# Altium schematic symbol library Super_Hornet.SchLib: 120 symbols (part 5 of 5)
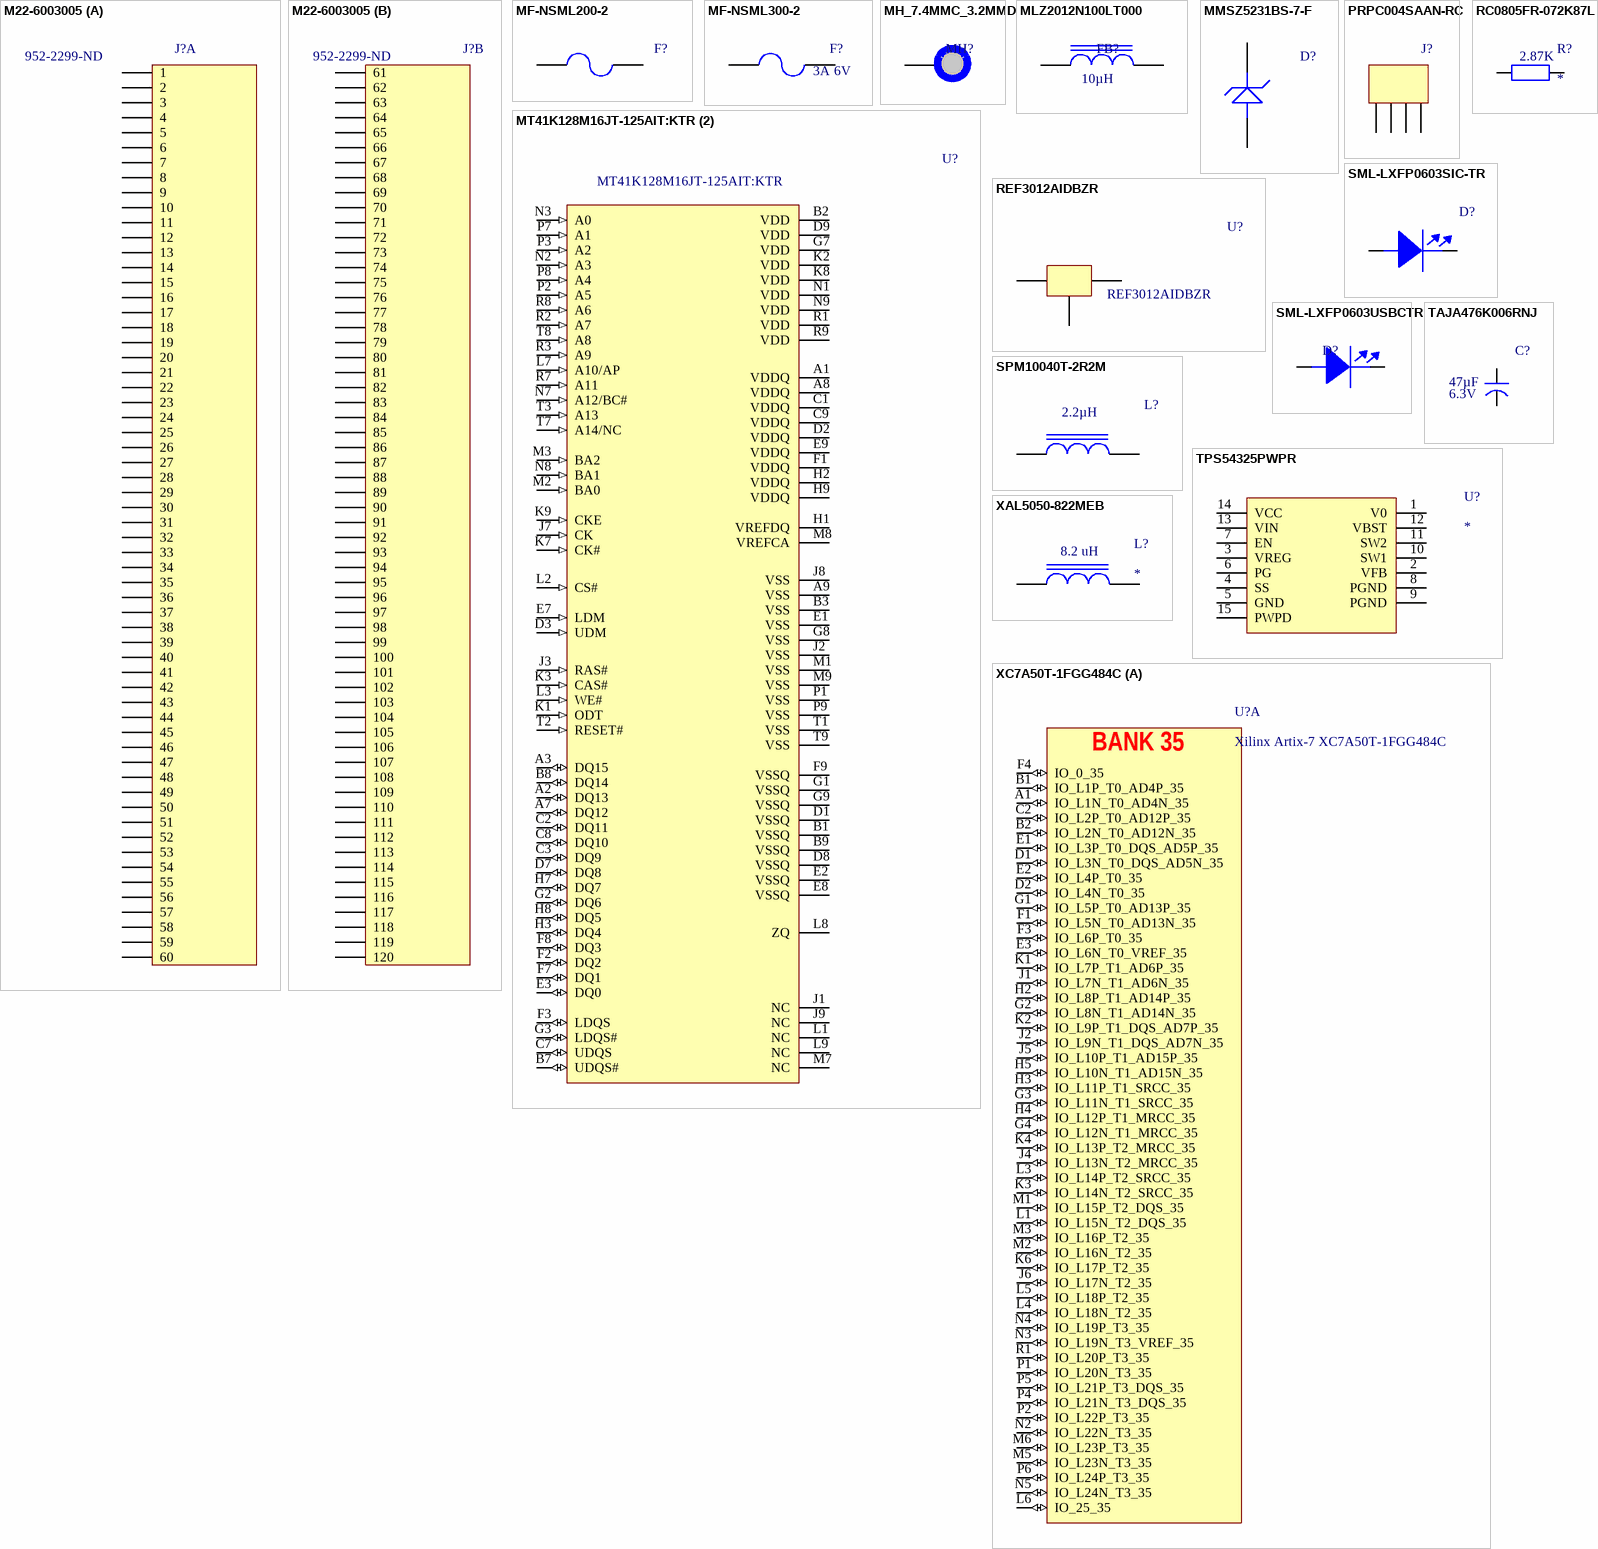
[diagram p10: symbols M22-6003005 to XC7A50T-1FGG484C]

## M22-6003005
designator J?  Supplier Part Number 1: 952-2299-ND  (hidden comment: M22-6003005)
CONN STKTHRU PC/104+ 120POS PCB; Manufacturer: Harwin; Connector Type: Stackthrough, Unkeyed (PC/104); Connector Style: PC/104 Plus; Number of Positions: 120; Number of Positions Loaded: All; Pitch: 0.079" (2.00mm); Current Rating: 1A; Material Flammability Rating: UL94 V-0; Supplier 1: Digi-Key; Manufacturer Part Number: M22-6003005; Stock 1: 268; Pricing 1: 1=14.88, 5=14.476, 10=14.074, 25=13.2692, 50=12.8672, 100=12.063, 250=11.2588, 500=10.8567, 1000=10.4546 (USD); Category: Connectors, Interconnects; Family: Backplane Connectors - Specialized; Series: M22; Packaging: Tube; Connector Usage: -; Number of Rows: 4; Number of Columns: -; Mounting Type: Through Hole; Termination: Solder; Contact Layout, Typical: -; Features: -; Contact Finish: Gold; Contact Finish Thickness: Flash; Color: Black; Operating Temperature: -55°C ~ 105°C; Voltage Rating: -; ComponentLink1URL: http://www.mouser.com/ds/2/181/M22-600-1133549.pdf?src-supplier=Mouser; ComponentLink1Description: http://www.mouser.com/ds/2/181/M22-600-1133549.pdf?src-supplier=Mouser
footprint 120POS_CONN
part A pins: 1, 2, 3, 4, 5, 6, 7, 8, 9, 10, 11, 12, 13, 14, 15, 16, 17, 18, 19, 20, 21, 22, 23, 24, 25, 26, 27, 28, 29, 30, 31, 32, 33, 34, 35, 36, 37, 38, 39, 40, 41, 42, 43, 44, 45, 46, 47, 48, 49, 50, 51, 52, 53, 54, 55, 56, 57, 58, 59, 60
part B pins: 61, 62, 63, 64, 65, 66, 67, 68, 69, 70, 71, 72, 73, 74, 75, 76, 77, 78, 79, 80, 81, 82, 83, 84, 85, 86, 87, 88, 89, 90, 91, 92, 93, 94, 95, 96, 97, 98, 99, 100, 101, 102, 103, 104, 105, 106, 107, 108, 109, 110, 111, 112, 113, 114, 115, 116, 117, 118, 119, 120

## MF-NSML200-2
designator F?  (value not drawn)
PTC FUSE 2A HOLD 4ATRIP 6V 50A 0.8W 1s; Manufacturer: Bourns; Manufacturer Part Number: MF-NSML200-2; Categories: Circuit Protection; Type: Polymeric; Current - Trip (It): 4A; Resistance - Initial (Ri) (Min): 5 mOhms; Resistance - Post Trip (R1) (Max): 25 mOhms; Approvals: cURus, TUV; Supplier 1: Digi-Key; Stock 1: 3983; Pricing 1: 1=0.95, 5=0.92, 10=0.861, 50=0.7128, 100=0.594, 250=0.5792, 500=0.4901, 1000=0.4307 (USD); Series: Multifuse®, MF-NSML; Packaging: Cut Tape (CT); Part Status: Active; Voltage - Max: 6V; Current - Max: 50A; Current - Hold (Ih) (Max): 2A; Time to Trip: 1s; Operating Temperature: -40°C ~ 85°C; Ratings: -; Mounting Type: Surface Mount; Package / Case: 1206 (3216 Metric), Concave; Size / Dimension: 0.128 L x 0.063 W (3.25mm x 1.60mm); Height - Seated (Max): -; Thickness (Max): 0.024 (0.60mm); Lead Spacing: -; ComponentLink1URL: https://www.bourns.com/docs/Product-Datasheets/mfnsml.pdf?src-supplier=Digi-Key; ComponentLink1Description: https://www.bourns.com/docs/Product-Datasheets/mfnsml.pdf?src-supplier=Digi-Key; Supplier Part Number 1: MF-NSML200-2CT-ND
footprint C1206 - PTC
pins: 1, 2

## MF-NSML300-2
designator F?  Voltage - Max: 6V  Current - Hold (Ih) (Max): 3A  (hidden comment: *)
PTC FUSE 3A HOLD 6V 1206; Manufacturer: Bourns; Manufacturer Part Number: MF-NSML300-2; Categories: Circuit Protection; Type: Polymeric; Current - Max: 50A; Current - Trip (It): 6A; Resistance - Initial (Ri) (Min): 2.5 mOhms; Resistance - Post Trip (R1) (Max): 20 mOhms; Approvals: cURus, TUV; Time to Trip: 4s; Supplier 1: Digi-Key; Stock 1: 1383; Pricing 1: 1=0.95, 5=0.92, 10=0.861, 50=0.7128, 100=0.594, 250=0.5792, 500=0.4901, 1000=0.4307 (USD); Series: Multifuse®, MF-NSML; Packaging: Cut Tape (CT); Part Status: Active; Operating Temperature: -40°C ~ 85°C; Ratings: -; Mounting Type: Surface Mount; Package / Case: 1206 (3216 Metric), Concave; Size / Dimension: 0.128 L x 0.063 W (3.25mm x 1.60mm); Height - Seated (Max): -; Thickness (Max): 0.024 (0.60mm); Lead Spacing: -; ComponentLink1URL: https://www.bourns.com/docs/Product-Datasheets/mfnsml.pdf?src-supplier=Digi-Key; ComponentLink1Description: https://www.bourns.com/docs/Product-Datasheets/mfnsml.pdf?src-supplier=Digi-Key; ComponentLink2URL: http://www.bourns.com/docs/Product-Datasheets/mfnsml.pdf?src-supplier=Digi-Key; ComponentLink2Description: http://www.bourns.com/docs/Product-Datasheets/mfnsml.pdf?src-supplier=Digi-Key; ComponentLink3URL: http://www.farnell.com/datasheets/2339790.pdf?src-supplier=Farnell; ComponentLink3Description: http://www.farnell.com/datasheets/2339790.pdf?src-supplier=Farnell; Supplier Part Number 1: MF-NSML300-2CT-ND
footprint C1206 - PTC
pins: 1, 2

## MH_7.4MMC_3.2MMD
designator MH?  (value not drawn)  (no BOM)
MOUNTING HOLE 7.4MM DIAMETER, 3.2MM DRILL
footprint PAD_WITH_HOLE_4MMx1.5MM
pins: 1

## MLZ2012N100LT000
designator FB?  Inductance: 10µH  (hidden comment: *)
IND 10UH 500MA 300 MOHM; Manufacturer: TDK; Manufacturer Part Number: MLZ2012N100LT000; Product Training Modules: SMD Inductors; EDA / CAD Models: Download from Accelerated Designs; Type: Multilayer; Material - Core: Ferrite; Tolerance: ±20%; Current - Saturation: 110mA; Shielding: Shielded; DC Resistance (DCR): 390 mOhm Max; Frequency - Self Resonant: 50MHz; Frequency - Test: 2MHz; Online Catalog: MLZ Series; Other Names: 445-6762-6; Supplier 1: Digi-Key; Stock 1: 55210; Pricing 1: 1=0.14, 10=0.129, 100=0.0863, 500=0.0719, 1000=0.0604 (USD); Standard Package: 1; Category: Inductors, Coils, Chokes; Family: Fixed Inductors; Series: MLZ; Packaging: Digi-Reel®; Current Rating: 500mA; Q @ Freq: -; Ratings: -; Operating Temperature: -55°C ~ 125°C; Mounting Type: Surface Mount; Package / Case: 0805 (2012 Metric); Size / Dimension: 0.079" L x 0.049" W (2.00mm x 1.25mm); Height - Seated (Max): 0.057" (1.45mm); ComponentLink1URL: https://product.tdk.com/info/en/catalog/datasheets/inductor_commercial_decoupling_mlz2012_en.pdf?src-supplier=Digi-Key; ComponentLink1Description: https://product.tdk.com/info/en/catalog/datasheets/inductor_commercial_decoupling_mlz2012_en.pdf?src-supplier=Digi-Key; Supplier Part Number 1: 445-6762-1-ND
footprint R0805
pins: 1, 2

## MMSZ5231BS-7-F
designator D?  (value not drawn)
DIODE ZENER 5.1V 200MW SOD323; Manufacturer: Diodes; Manufacturer Part Number: MMSZ5231BS-7-F; Voltage Tolerance: 5 %; Zener Current: 5 uA; Zz - Zener Impedance: 17 Ohms; Configuration: Single; Brand: Diodes Incorporated; Vf - Forward Voltage: 0.9 V at 10 mA; Unit Weight: 0.000173 oz; Supplier 1: Digi-Key; Stock 1: 36123; Pricing 1: 1=0.26, 10=0.182, 100=0.097, 500=0.0556, 1000=0.0465 (USD); Product Category: Zener Diodes; RoHS: True; Vz - Zener Voltage: 5.1 V; Mounting Style: SMD/SMT; Package / Case: SOD-323-2; Pd - Power Dissipation: 200 mW; Maximum Operating Temperature: + 150 C; Packaging: Reel; Height: 1 mm; Ir - Reverse Current: 5 uA; Length: 2.7 mm; Minimum Operating Temperature: - 65 C; Product: Zener Diode; Series: MMSZ523; Factory Pack Quantity: 3000; Termination Style: SMD/SMT; Width: 1.4 mm; ComponentLink1URL: http://www.diodes.com/datasheets/ds31038.pdf?src-supplier=Future+Electronics; ComponentLink1Description: http://www.diodes.com/datasheets/ds31038.pdf?src-supplier=Future+Electronics; ComponentLink2URL: http://www.diodes.com///datasheets/ds31038.pdf?src-supplier=Avnet; ComponentLink2Description: http://www.diodes.com///datasheets/ds31038.pdf?src-supplier=Avnet; ComponentLink3URL: http://www.diodes.com//datasheets/ds31038.pdf?src-supplier=Avnet; ComponentLink3Description: http://www.diodes.com//datasheets/ds31038.pdf?src-supplier=Avnet; ComponentLink4URL: http://www.diodes.com//datasheets/ds31038.pdf?src-supplier=Avnet+Europe; ComponentLink4Description: http://www.diodes.com//datasheets/ds31038.pdf?src-supplier=Avnet+Europe; Supplier Part Number 1: MMSZ5231BS-FDICT-ND
footprint SOD-323_R1
pins: 1, 2

## MT41K128M16JT-125AIT:KTR (2)
designator U?  Manufacturer Part Number: MT41K128M16JT-125AIT:KTR  (hidden comment: *)
IC DRAM 2G PARALLEL 96FBGA; Manufacturer: Micron Technology; Format - Memory: RAM; Memory Type: DDR3L SDRAM; Memory Size: 2G (128M x 16); Speed: 800MHz; Voltage - Supply: 1.283 V ~ 1.45 V; Supplier 1: Digi-Key; Stock 1: 839; Pricing 1: 1=6.19, 10=5.645, 25=5.5376, 50=5.4998, 100=4.9337, 250=4.9147, 500=4.6079, 1000=4.4118 (USD); Standard Package: 1,000; Category: Integrated Circuits (ICs); Family: Memory; Packaging: Tape & Reel (TR); Interface: Parallel; Operating Temperature: -40°C ~ 95°C; Package / Case: 96-TFBGA; Supplier Device Package: 96-FBGA (8x14); ComponentLink1URL: http://www.micron.com/~/media/documents/products/data-sheet/dram/ddr3/2gb_1_35v_ddr3l.pdf?src-supplier=Digi-Key; ComponentLink1Description: http://www.micron.com/~/media/documents/products/data-sheet/dram/ddr3/2gb_1_35v_ddr3l.pdf?src-supplier=Digi-Key; Supplier Part Number 1: 557-1894-1-ND
footprint FBGA-96
pins: A1 VDDQ, A2 DQ13 (io), A3 DQ15 (io), A7 DQ12 (io), A8 VDDQ, A9 VSS, B1 VSSQ, B2 VDD, B3 VSS, B7 UDQS# (io), B8 DQ14 (io), B9 VSSQ, C1 VDDQ, C2 DQ11 (io), C3 DQ9 (io), C7 UDQS (io), C8 DQ10 (io), C9 VDDQ, D1 VSSQ, D2 VDDQ, D3 UDM (in), D7 DQ8 (io), D8 VSSQ, D9 VDD, E1 VSS, E2 VSSQ, E3 DQ0 (io), E7 LDM (in), E8 VSSQ, E9 VDDQ, F1 VDDQ, F2 DQ2 (io), F3 LDQS (io), F7 DQ1 (io), F8 DQ3 (io), F9 VSSQ, G1 VSSQ, G2 DQ6 (io), G3 LDQS# (io), G7 VDD, G8 VSS, G9 VSSQ, H1 VREFDQ, H2 VDDQ, H3 DQ4 (io), H7 DQ7 (io), H8 DQ5 (io), H9 VDDQ, J1 NC, J2 VSS, J3 RAS# (in), J7 CK (in), J8 VSS, J9 NC, K1 ODT (in), K2 VDD, K3 CAS# (in), K7 CK# (in), K8 VDD, K9 CKE (in), L1 NC, L2 CS# (in), L3 WE# (in), L7 A10/AP (in), L8 ZQ, L9 NC, M1 VSS, M2 BA0 (in), M3 BA2 (in), M7 NC, M8 VREFCA, M9 VSS, N1 VDD, N2 A3 (in), N3 A0 (in), N7 A12/BC# (in), N8 BA1 (in), N9 VDD, P1 VSS, P2 A5 (in), P3 A2 (in), P7 A1 (in), P8 A4 (in), P9 VSS, R1 VDD, R2 A7 (in), R3 A9 (in), R7 A11 (in), R8 A6 (in), R9 VDD, T1 VSS, T2 RESET# (in), T3 A13 (in), T7 A14/NC (in), T8 A8 (in), T9 VSS

## PRPC004SAAN-RC
designator J?  (value not drawn)
CONN HEADER VERT 4POS 2.54MM; Manufacturer: Sullins; Manufacturer Part Number: PRPC004SAAN-RC; Connector Type: Header, Unshrouded, Breakaway; Number of Positions: 4; Number of Positions Loaded: All; Pitch: 0.100" (2.54mm); Online Catalog: 0.100" (2.54mm) Pitch Connector Headers; Other Names: S9510E-04  S9510E-04-ND; Supplier 1: Digi-Key; Stock 1: 6923; Pricing 1: 1=0.15, 10=0.146, 25=0.1084, 50=0.0928, 100=0.0898, 250=0.0774, 500=0.0743 (USD); Standard Package: 1; Category: Connectors, Interconnects; Family: Rectangular Connectors - Headers, Male Pins; Series: -; Packaging: Bulk; Contact Type: Male Pin; Number of Rows: 1; Row Spacing: -; Contact Mating Length: 0.230" (5.84mm); Mounting Type: Through Hole; Termination: Solder; Fastening Type: -; Features: -; Contact Finish: Gold; Contact Finish Thickness: Flash; Color: Black; ComponentLink1URL: https://media.digikey.com/PDF/Data%20Sheets/Sullins%20PDFs/xRxCzzzSxxN-RC_ST_11635-B.pdf?src-supplier=Digi-Key; ComponentLink1Description: https://media.digikey.com/PDF/Data%20Sheets/Sullins%20PDFs/xRxCzzzSxxN-RC_ST_11635-B.pdf?src-supplier=Digi-Key; Supplier Part Number 1: S1011EC-04-ND
footprint HDR_MALE_1x4_2.54mm
pins: 1, 2, 3, 4

## RC0805FR-072K87L
designator R?  Resistance (Ohms): 2.87K
RES SMD 2.87K OHM 1% 1/8W 0805; Manufacturer: Yageo; Manufacturer Part Number: RC0805FR-072K87L; Product Training Modules: Chip Resistor; Catalog Drawings: Thick Film Resistor Side; PCN Other: RC/AC 0603/0805/1206 22/Jan/2013; HTML Datasheet: RC Series, L Suffix Datasheet.html; EDA / CAD Models: Download from Accelerated Designs; Power (Watts): 0.125W, 1/8W; Temperature Coefficient: ±100ppm/°C; Online Catalog: RC0805 Series; Kits: PHC4A-KIT-ND  - RES KIT 1K-9.76K 1/8W 5700PCS PHC4-KIT-ND  - RES KIT 1K-9.76K 1/8W 22800PCS; Other Names: 311-2.87KCRCT; Supplier 1: Digi-Key; Stock 1: 149027; Pricing 1: 1=0.1, 10=0.04, 100=0.0163, 1000=0.0073, 2500=0.0064 (USD); Standard Package: 1; Category: Resistors; Family: Chip Resistor - Surface Mount; Series: RC; Packaging: Cut Tape (CT); Tolerance: ±1%; Composition: Thick Film; Features: Moisture Resistant; Operating Temperature: -55°C ~ 155°C; Package / Case: 0805 (2012 Metric); Supplier Device Package: 0805; Size / Dimension: 0.079" L x 0.049" W (2.00mm x 1.25mm); Height: 0.024" (0.60mm); Number of Terminations: 2; ComponentLink1URL: http://www.yageo.ru/pdf/RC0805.pdf?src-supplier=Future+Electronics; ComponentLink1Description: http://www.yageo.ru/pdf/RC0805.pdf?src-supplier=Future+Electronics; ComponentLink2URL: http://www.yageo.com.tw/exep/pages/download/literatures/PYu-R_INT-thick_7.pdf?src-supplier=Digi-Key; ComponentLink2Description: http://www.yageo.com.tw/exep/pages/download/literatures/PYu-R_INT-thick_7.pdf?src-supplier=Digi-Key; ComponentLink3URL: http://www.yageo.com/documents/recent/PYu-RC_Group_51_RoHS_L_9.pdf?src-supplier=Digi-Key; ComponentLink3Description: http://www.yageo.com/documents/recent/PYu-RC_Group_51_RoHS_L_9.pdf?src-supplier=Digi-Key; Supplier Part Number 1: 311-2.87KCRCT-ND
footprint R0805
pins: 1, 2

## REF3012AIDBZR
designator U?  Manufacturer Part Number: REF3012AIDBZR  (hidden comment: *)
IC VREF SERIES 0.2% SOT23-3; Manufacturer: Texas Instruments; Reference Type: Precision; Output Voltage: 1.25 V; Maximum Input Voltage: 7 V; Maximum Temperature Coefficient: 75 ppm/°C; Line Regulation: 190 uV/V; Load Regulation: 100 uV/mA; Maximum Output Current: 25 mA; Rad Hard: No; Supplier 1: Digi-Key; Stock 1: 28859; Pricing 1: 1=1.39, 10=1.245, 25=1.1816, 100=0.9073, 250=0.8018, 500=0.7596, 1000=0.5908 (USD); Package: 3SOT-23; Packaging: Tape & Reel; Topology: Series; Initial Accuracy: 0.2 %; Operating Temperature: -40 to 125 °C; Mounting: Surface Mount; Category: Voltage Reference; ComponentLink1URL: http://www.ti.com/lit/ds/symlink/ref3012.pdf?src-supplier=Digi-Key; ComponentLink1Description: http://www.ti.com/lit/ds/symlink/ref3012.pdf?src-supplier=Digi-Key; ComponentLink2URL: http://www.ti.com/general/docs/lit/getliterature.tsp?genericPartNumber=REF3030&&fileType=pdf&src-supplier=Avnet; ComponentLink2Description: http://www.ti.com/general/docs/lit/getliterature.tsp?genericPartNumber=REF3030&&fileType=pdf&src-supplier=Avnet; Supplier Part Number 1: 296-32213-1-ND
footprint SOT-23-3
pins: 1, 2, 3

## SML-LXFP0603SIC-TR
designator D?  (value not drawn)
LED RED CLEAR 0603 SMD; Manufacturer: Lumex; Manufacturer Part Number: SML-LXFP0603SIC-TR; Wavelength/Color Temperature: 628 nm; Luminous Intensity: 45 mcd; Viewing Angle: 130 deg; Lens Color/Style: Water Clear; If - Forward Current: 5 mA; Vf - Forward Voltage: 2 V; Power Rating: 30 mW; LED Size: 1.6 mm x 0.8 mm x 0.2 mm; Lens Shape: Rectangular; Vr - Reverse Voltage: 5 V; Supplier 1: Digi-Key; Stock 1: 16849; Pricing 1: 1=0.47, 10=0.33, 100=0.1925, 500=0.132, 1000=0.11 (USD); Product Category: Standard LEDs - SMD; RoHS: True; Package / Case: 0603 (1608 metric); Illumination Color: Red; Length: 1.6 mm; Height: 0.2 mm; Width: 0.8 mm; Maximum Operating Temperature: + 85 C; Minimum Operating Temperature: - 40 C; Series: FP0603; Packaging: Reel; Brand: Lumex; Lens Dimensions: 1.6 mm x 0.8 mm; Mounting Style: SMD/SMT; Peak Wavelength: 628 nm; Factory Pack Quantity: 3000; Wavelength: 628 nm; ComponentLink1URL: http://www.lumex.com/content/files/ProductAttachment/SML-LXFP0603SIC-TR.pdf?src-supplier=Digi-Key; ComponentLink1Description: http://www.lumex.com/content/files/ProductAttachment/SML-LXFP0603SIC-TR.pdf?src-supplier=Digi-Key; ComponentLink2URL: http://www.mouser.com/ds/2/244/SML-LXFP0603SIC-TR-272459.pdf?src-supplier=Mouser; ComponentLink2Description: http://www.mouser.com/ds/2/244/SML-LXFP0603SIC-TR-272459.pdf?src-supplier=Mouser; Supplier Part Number 1: 67-2219-1-ND
footprint LED-0603
pins: 1 ANODE, 2 CATHODE

## SML-LXFP0603USBCTR
designator D?  (value not drawn)
LED BLUE CLEAR 0603 SMD; Manufacturer: Lumex; Manufacturer Part Number: SML-LXFP0603USBCTR; Wavelength/Color Temperature: 470 nm; Luminous Intensity: 70 mcd; Viewing Angle: 130 deg; Lens Color/Style: Water Clear; If - Forward Current: 5 mA; Vf - Forward Voltage: 3 V; Power Rating: 95 mW; LED Size: 1.6 mm x 0.8 mm x 0.2 mm; Lens Shape: Rectangular; Vr - Reverse Voltage: 5 V; Supplier 1: Digi-Key; Stock 1: 9920; Pricing 1: 1=0.77, 10=0.595, 100=0.3825, 500=0.323, 1000=0.255 (USD); Product Category: Standard LEDs - SMD; RoHS: True; Package / Case: 0603 (1608 metric); Illumination Color: Blue; Length: 1.6 mm; Height: 0.2 mm; Width: 0.8 mm; Maximum Operating Temperature: + 85 C; Minimum Operating Temperature: - 40 C; Series: FP0603; Packaging: Reel; Brand: Lumex; Lens Dimensions: 1.6 mm x 0.8 mm; Mounting Style: SMD/SMT; Peak Wavelength: 470 nm; Factory Pack Quantity: 3000; Wavelength: 470 nm; ComponentLink1URL: http://www.lumex.com/content/files/ProductAttachment/SML-LXFP0603USBCTR.pdf?src-supplier=Digi-Key; ComponentLink1Description: http://www.lumex.com/content/files/ProductAttachment/SML-LXFP0603USBCTR.pdf?src-supplier=Digi-Key; ComponentLink2URL: https://www.lumex.com/content/files/ProductAttachment/SML-LXFP0603USBCTR.pdf?src-supplier=Digi-Key; ComponentLink2Description: https://www.lumex.com/content/files/ProductAttachment/SML-LXFP0603USBCTR.pdf?src-supplier=Digi-Key; ComponentLink3URL: http://www.mouser.com/ds/2/244/SML-LXFP0603USBCTR-272434.pdf?src-supplier=Mouser; ComponentLink3Description: http://www.mouser.com/ds/2/244/SML-LXFP0603USBCTR-272434.pdf?src-supplier=Mouser; Supplier Part Number 1: 67-2225-1-ND
footprint LED-0603-BLUE
pins: 1 ANODE, 2 CATHODE

## SPM10040T-2R2M
designator L?  Inductance: 2.2µH  (hidden comment: *)
IND 2.2UH 12A 7.5MOHM; Manufacturer: TDK; Manufacturer Part Number: SPM10040T-2R2M; Categories: Inductors, Coils, Chokes; Type: Wirewound; Material - Core: Metal; Tolerance: ±20%; Current - Saturation: 12.2A; Shielding: Shielded; DC Resistance (DCR): 7.5 mOhm Max; Inductance Frequency - Test: 100kHz; Supplier 1: Digi-Key; Stock 1: 2304; Pricing 1: 1=1.54, 10=1.43, 25=1.32, 50=1.1, 100=1.034, 250=0.924 (USD); Series: SPM; Packaging: Tape & Reel (TR); Part Status: Active; Current Rating: 12A; Q @ Freq: -; Frequency - Self Resonant: -; Ratings: -; Operating Temperature: -40°C ~ 125°C; Features: -; Mounting Type: Surface Mount; Package / Case: Nonstandard; Supplier Device Package: -; Size / Dimension: 0.421 L x 0.394 W (10.70mm x 10.00mm); Height - Seated (Max): 0.157 (4.00mm); ComponentLink1URL: https://product.tdk.com/info/en/catalog/datasheets/inductor_commercial_power_spm10040_en.pdf?src-supplier=Digi-Key; ComponentLink1Description: https://product.tdk.com/info/en/catalog/datasheets/inductor_commercial_power_spm10040_en.pdf?src-supplier=Digi-Key; Supplier Part Number 1: 445-175126-1-ND
footprint 2.2UH_10_7MMx10.4MM
pins: 1, 2

## TAJA476K006RNJ
designator C?  Capacitance: 47µF  Voltage - Rated: 6.3V  (hidden comment: *)
CAP TANT 47UF 6.3V 1206; Manufacturer: Kyocera AVX; Manufacturer Part Number: TAJA476K006RNJ; PCN Part Number: TAJ Series Suffix 08/Dec/2008; Manufacturer Size Code: A; Product Training Modules: Component Solutions for Smart Meter Applications; EDA / CAD Models: Download from Accelerated Designs; Tolerance: ±10%; ESR (Equivalent Series Resistance): 1.6 Ohm; Type: Molded; Online Catalog: TAJ Series; Other Names: 478-5800-2  TAJA476K006R  TAJA476K006R-ND  TAJA476K006RNJ-ND; Supplier 1: Digi-Key; Stock 1: 102567; Pricing 1: 1=0.41, 10=0.288, 100=0.1894, 500=0.1403, 1000=0.1192 (USD); Standard Package: 2,000; Category: Capacitors; Family: Tantalum Capacitors; Series: TAJ; Packaging: Tape & Reel (TR); Operating Temperature: -55°C ~ 125°C; Mounting Type: Surface Mount; Package / Case: 1206 (3216 Metric); Size / Dimension: 0.126" L x 0.063" W (3.20mm x 1.60mm); Height - Seated (Max): 0.071" (1.80mm); Lead Spacing: -; Features: General Purpose; Lifetime @ Temp.: -; ComponentLink1URL: http://datasheets.avx.com/TAJ.pdf?src-supplier=Digi-Key; ComponentLink1Description: http://datasheets.avx.com/TAJ.pdf?src-supplier=Digi-Key; ComponentLink2URL: http://www.farnell.com/datasheets/2042914.pdf?src-supplier=Element14; ComponentLink2Description: http://www.farnell.com/datasheets/2042914.pdf?src-supplier=Element14; ComponentLink3URL: http://www.avx.com/docs/catalogs/taj.pdf?src-supplier=Avnet+Asia; ComponentLink3Description: http://www.avx.com/docs/catalogs/taj.pdf?src-supplier=Avnet+Asia; ComponentLink4URL: http://www.avxcorp.com/docs/Catalogs/taj.pdf?src-supplier=Future+Electronics; ComponentLink4Description: http://www.avxcorp.com/docs/Catalogs/taj.pdf?src-supplier=Future+Electronics; ComponentLink5URL: http://www.avx.com/docs/Catalogs/taj.pdf?src-supplier=Element14; ComponentLink5Description: http://www.avx.com/docs/Catalogs/taj.pdf?src-supplier=Element14; ComponentLink6URL: http://www.avx.com/docs/Catalogs/taj.pdf?src-supplier=Farnell; ComponentLink6Description: http://www.avx.com/docs/Catalogs/taj.pdf?src-supplier=Farnell; ComponentLink7URL: http://www.mouser.com/ds/2/40/taj-776811.pdf?src-supplier=Mouser; ComponentLink7Description: http://www.mouser.com/ds/2/40/taj-776811.pdf?src-supplier=Mouser; ComponentLink8URL: http://www.avx.com/docs/catalogs/taj.pdf?src-supplier=Avnet; ComponentLink8Description: http://www.avx.com/docs/catalogs/taj.pdf?src-supplier=Avnet; ComponentLink9URL: https://produktinfo.conrad.com/datenblaetter/550000-574999/559478-da-01-en-TACC_A__3_2_MM_X_1_6_MM_X_1_6_MM__47_UF_.pdf?src-supplier=Conrad; ComponentLink9Description: https://produktinfo.conrad.com/datenblaetter/550000-574999/559478-da-01-en-TACC_A__3_2_MM_X_1_6_MM_X_1_6_MM__47_UF_.pdf?src-supplier=Conrad; Supplier Part Number 1: 478-5800-1-ND
footprint C1206 - TANT
pins: 1, 2

## TPS54325PWPR
designator U?
IC REG BUCK ADJ 3A SYNC 14HTSSOP; Manufacturer: Texas Instruments; Manufacturer Part Number: TPS54325PWPR; Product Training Modules: Understanding SWIFT Step Down Dc/Dc Converters; Featured Product: TPS54325 - 3A Step-Down SWIFT™ Converter / WEBENCH Design Center; Output Type: Adjustable; Number of Outputs: 1; Voltage - Output: 0.76 V ~ 5.5 V; Voltage - Input: 2 V ~ 18 V; PWM Type: Hybrid; Frequency - Switching: 700kHz; Synchronous Rectifier: Yes; Dynamic Catalog: Buck (Step-Down) IC; Other Names: 296-24557-1; Supplier 1: Digi-Key; Stock 1: 45243; Pricing 1: 1=1.63, 10=1.468, 25=1.3852, 100=1.108, 250=0.9695, 500=0.9418, 1000=0.7479 (USD); Standard Package: 1; Category: Integrated Circuits (ICs); Family: PMIC - Voltage Regulators - DC DC Switching Regulators; Series: SWIFT™, D-CAP2™; Type: Step-Down (Buck); Current - Output: 3A; Operating Temperature: -40°C ~ 85°C; Mounting Type: Surface Mount; Package / Case: 14-TSSOP (0.173", 4.40mm Width) Exposed Pad; Packaging: Cut Tape (CT); Supplier Device Package: 14-HTSSOP; ComponentLink1URL: http://www.ti.com/lit/ds/symlink/tps54325.pdf?src-supplier=Digi-Key; ComponentLink1Description: http://www.ti.com/lit/ds/symlink/tps54325.pdf?src-supplier=Digi-Key; ComponentLink2URL: http://www.ti.com/lit/gpn/tps54325?src-supplier=Mouser; ComponentLink2Description: http://www.ti.com/lit/gpn/tps54325?src-supplier=Mouser; ComponentLink3URL: http://www.ti.com/general/docs/lit/getliterature.tsp?genericPartNumber=TPS54325&&fileType=pdf&src-supplier=Avnet; ComponentLink3Description: http://www.ti.com/general/docs/lit/getliterature.tsp?genericPartNumber=TPS54325&&fileType=pdf&src-supplier=Avnet; ComponentLink4URL: http://datasheet.iiic.cc/texas_instruments/TPS54325PWPR.pdf?src-supplier=IIIC; ComponentLink4Description: http://datasheet.iiic.cc/texas_instruments/TPS54325PWPR.pdf?src-supplier=IIIC; ComponentLink5URL: http://www.produktinfo.conrad.com/datenblaetter/1000000-1099999/001014848-da-01-en-IC_REG_BUCK_SY_TPS54325PWPR_TSSOP_14_TID.pdf?src-supplier=Conrad; ComponentLink5Description: http://www.produktinfo.conrad.com/datenblaetter/1000000-1099999/001014848-da-01-en-IC_REG_BUCK_SY_TPS54325PWPR_TSSOP_14_TID.pdf?src-supplier=Conrad; Supplier Part Number 1: 296-24557-1-ND
footprint 14-HTSSOP
pins: 1 V0, 2 VFB, 3 VREG, 4 SS, 5 GND, 6 PG, 7 EN, 8 PGND, 9 PGND, 10 SW1, 11 SW2, 12 VBST, 13 VIN, 14 VCC, 15 PWPD

## XAL5050-822MEB
designator L?  Inductance: 8.2 uH
IND 8.2UH 6.1A 35MOHM; Manufacturer: Coilcraft; Manufacturer Part Number: XAL5050-822MEB; Part # Aliases: XAL5050-822MEC; Case Height: 5.1 mm; Case Length: 5.68 mm; Case Width: 5.48 mm; Core Material: Composite; Maximum DC Resistance: 34.95 mOhms; Tolerance: 20 %; Self Resonant Frequency: 18 MHz; Shielding: Shielded; Test Frequency: 100 kHz; Supplier 1: Mouser; Stock 1: 1232; Pricing 1: 1=2.57, 10=2.3, 50=2.2, 100=2.2, 250=2.2, 500=1.44 (USD); Brand: Coilcraft; Dimensions: 5.48 mm W x 5.68 mm L x 5.1 mm H; Maximum DC Current: 6.1 A; Operating Temperature Range: - 40 C to + 125 C; Packaging: Reel; Factory Pack Quantity: 20; Product Category: Fixed Inductors; RoHS: Details; Termination Style: SMD/SMT; Product: Power Inductors; Series: XAL5050; Supplier Part Number 1: 994-XAL5050-822MEB
footprint 8.2UH_5.28MMX5.28MM
pins: 1, 2

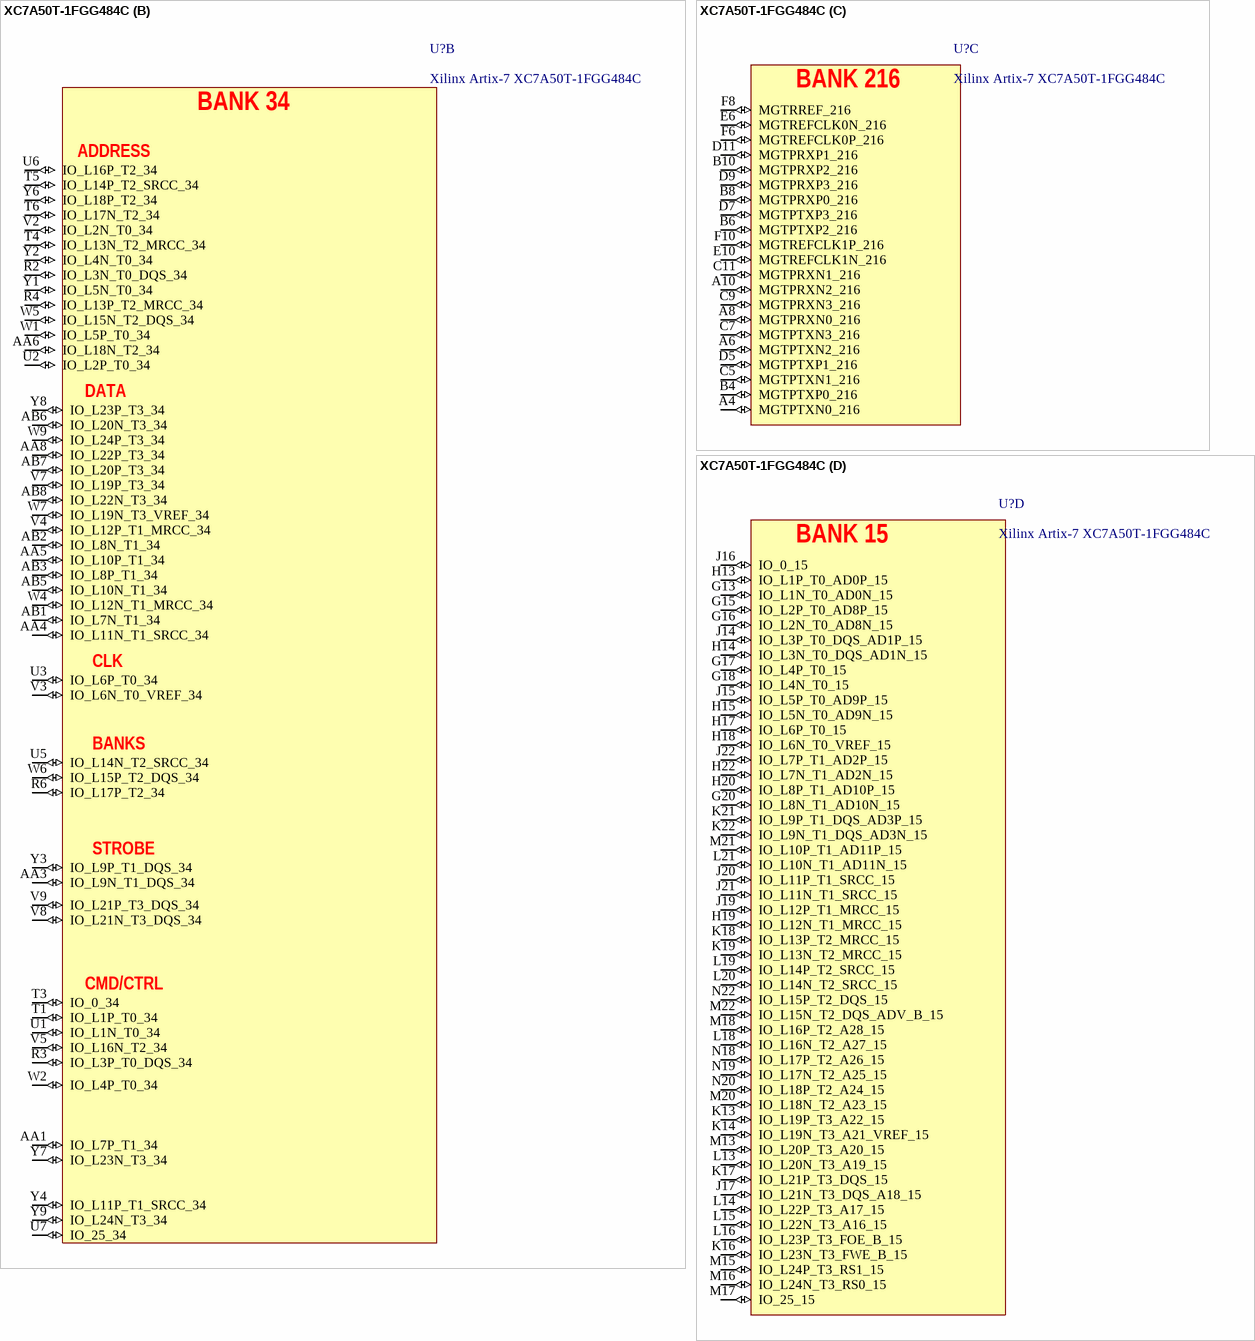
[diagram p4: symbol XC7A50T-1FGG484C]

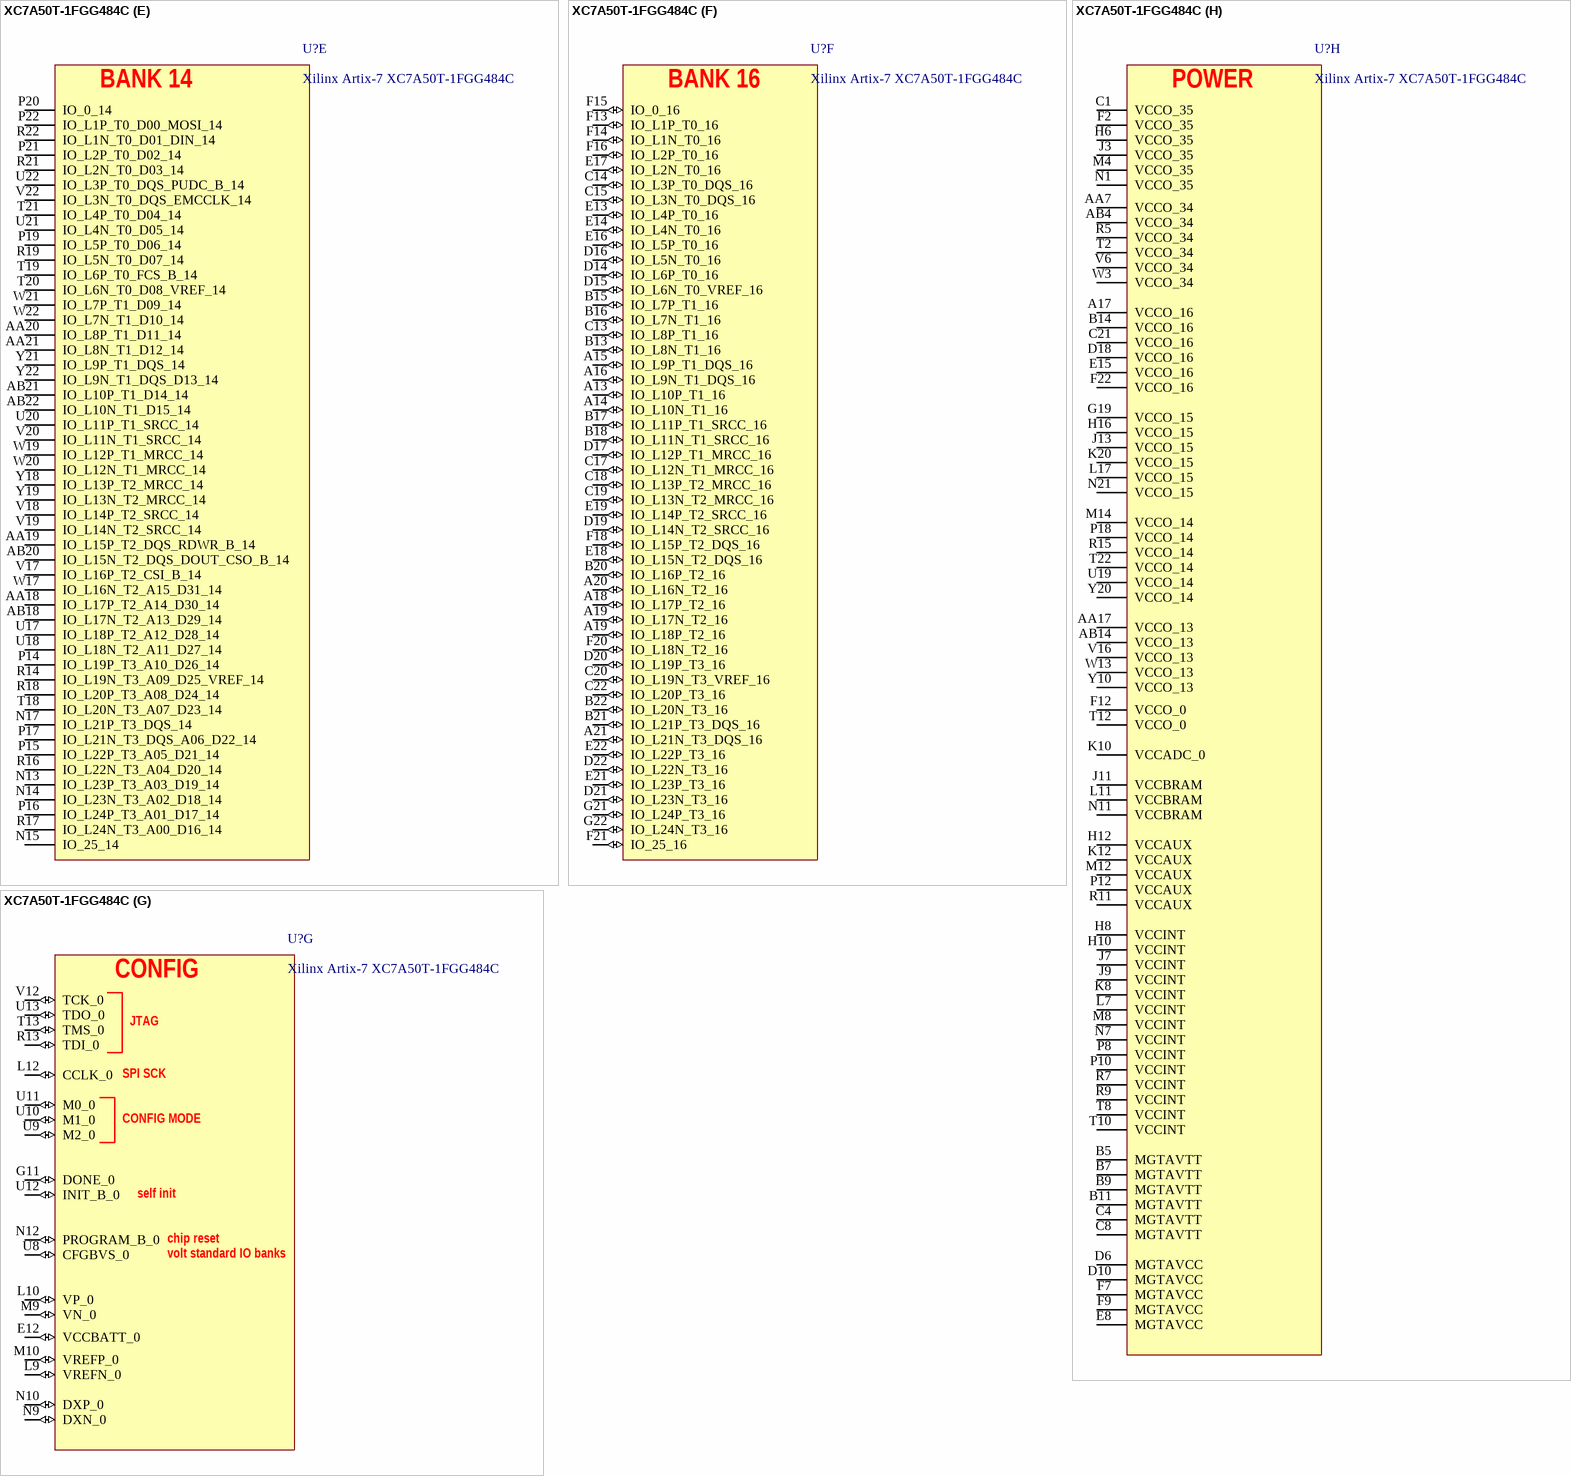
[diagram p5: symbol XC7A50T-1FGG484C]

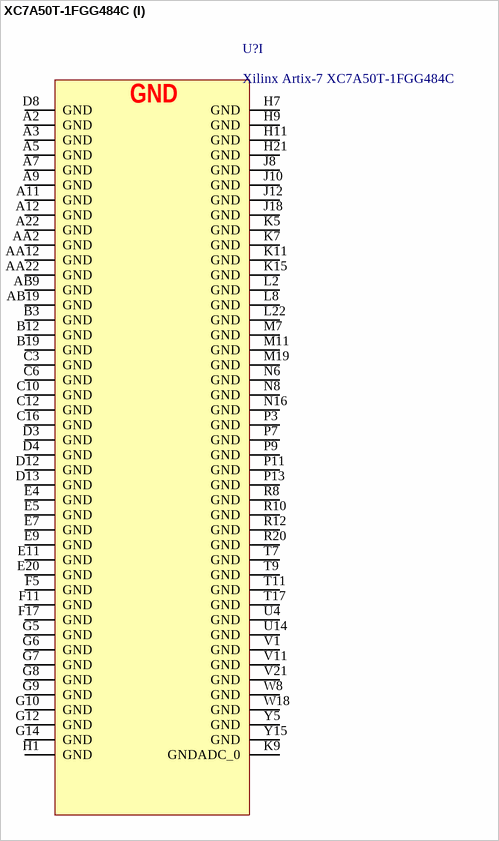
[diagram p6: symbol XC7A50T-1FGG484C]

## XC7A50T-1FGG484C
designator U?, comment Xilinx Artix-7 XC7A50T-1FGG484C
XILINX - XC7A50T-1FGG484C - FPGA, Artix-7, MMCM, PLL, 250 I/O's, 464 MHz, 52160 Cells, 950 mV to 1.05 V, FPBGA-484; RAM Bits: 2764800; Device Logic Cells: 52160; Number of Registers: 65200; Fabrication Technology: 28nm; In System Programmability: Yes; Device Logic Units: 32600; Minimum Operating Supply Voltage: 0.95 V; Speed Grade: 1; Typical Operating Supply Voltage: 1 V; Maximum Operating Supply Voltage: 1.05 V; Maximum Number of User I/Os: 250; Screening Level: Commercial; Supplier 1: Digi-Key; Manufacturer: Xilinx; Manufacturer Part Number: XC7A50T-1FGG484C; Stock 1: 250; Pricing 1: 1=77.14 (USD); Re-programmability Support: Yes; Operating Temperature: 0 to 85 C; Mounting: Surface Mount; ComponentLink1URL: http://www.xilinx.com/support/documentation/data_sheets/ds180_7Series_Overview.pdf?src-supplier=Avnet; ComponentLink1Description: http://www.xilinx.com/support/documentation/data_sheets/ds180_7Series_Overview.pdf?src-supplier=Avnet
footprint BGA484x22_1mm
part A pins: A1 IO_L1N_T0_AD4N_35 (io), B1 IO_L1P_T0_AD4P_35 (io), B2 IO_L2N_T0_AD12N_35 (io), C2 IO_L2P_T0_AD12P_35 (io), D1 IO_L3N_T0_DQS_AD5N_35 (io), D2 IO_L4N_T0_35 (io), E1 IO_L3P_T0_DQS_AD5P_35 (io), E2 IO_L4P_T0_35 (io), E3 IO_L6N_T0_VREF_35 (io), F1 IO_L5N_T0_AD13N_35 (io), F3 IO_L6P_T0_35 (io), F4 IO_0_35 (io), G1 IO_L5P_T0_AD13P_35 (io), G2 IO_L8N_T1_AD14N_35 (io), G3 IO_L11N_T1_SRCC_35 (io), G4 IO_L12N_T1_MRCC_35 (io), H2 IO_L8P_T1_AD14P_35 (io), H3 IO_L11P_T1_SRCC_35 (io), H4 IO_L12P_T1_MRCC_35 (io), H5 IO_L10N_T1_AD15N_35 (io), J1 IO_L7N_T1_AD6N_35 (io), J2 IO_L9N_T1_DQS_AD7N_35 (io), J4 IO_L13N_T2_MRCC_35 (io), J5 IO_L10P_T1_AD15P_35 (io), J6 IO_L17N_T2_35 (io), K1 IO_L7P_T1_AD6P_35 (io), K2 IO_L9P_T1_DQS_AD7P_35 (io), K3 IO_L14N_T2_SRCC_35 (io), K4 IO_L13P_T2_MRCC_35 (io), K6 IO_L17P_T2_35 (io), L1 IO_L15N_T2_DQS_35 (io), L3 IO_L14P_T2_SRCC_35 (io), L4 IO_L18N_T2_35 (io), L5 IO_L18P_T2_35 (io), L6 IO_25_35 (io), M1 IO_L15P_T2_DQS_35 (io), M2 IO_L16N_T2_35 (io), M3 IO_L16P_T2_35 (io), M5 IO_L23N_T3_35 (io), M6 IO_L23P_T3_35 (io), N2 IO_L22N_T3_35 (io), N3 IO_L19N_T3_VREF_35 (io), N4 IO_L19P_T3_35 (io), N5 IO_L24N_T3_35 (io), P1 IO_L20N_T3_35 (io), P2 IO_L22P_T3_35 (io), P4 IO_L21N_T3_DQS_35 (io), P5 IO_L21P_T3_DQS_35 (io), P6 IO_L24P_T3_35 (io), R1 IO_L20P_T3_35 (io)
part B pins: AA1 IO_L7P_T1_34                   (io), AA3 IO_L9N_T1_DQS_34               (io), AA4 IO_L11N_T1_SRCC_34             (io), AA5 IO_L10P_T1_34                  (io), AA6 IO_L18N_T2_34                  (io), AA8 IO_L22P_T3_34                  (io), AB1 IO_L7N_T1_34                   (io), AB2 IO_L8N_T1_34                   (io), AB3 IO_L8P_T1_34                   (io), AB5 IO_L10N_T1_34                  (io), AB6 IO_L20N_T3_34                  (io), AB7 IO_L20P_T3_34                  (io), AB8 IO_L22N_T3_34                  (io), R2 IO_L3N_T0_DQS_34               (io), R3 IO_L3P_T0_DQS_34               (io), R4 IO_L13P_T2_MRCC_34             (io), R6 IO_L17P_T2_34                  (io), T1 IO_L1P_T0_34                   (io), T3 IO_0_34 (io), T4 IO_L13N_T2_MRCC_34             (io), T5 IO_L14P_T2_SRCC_34             (io), T6 IO_L17N_T2_34                  (io), U1 IO_L1N_T0_34                   (io), U2 IO_L2P_T0_34                   (io), U3 IO_L6P_T0_34                   (io), U5 IO_L14N_T2_SRCC_34             (io), U6 IO_L16P_T2_34                  (io), U7 IO_25_34                       (io), V2 IO_L2N_T0_34                   (io), V3 IO_L6N_T0_VREF_34              (io), V4 IO_L12P_T1_MRCC_34             (io), V5 IO_L16N_T2_34                  (io), V7 IO_L19P_T3_34                  (io), V8 IO_L21N_T3_DQS_34              (io), V9 IO_L21P_T3_DQS_34              (io), W1 IO_L5P_T0_34                   (io), W2 IO_L4P_T0_34                   (io), W4 IO_L12N_T1_MRCC_34             (io), W5 IO_L15N_T2_DQS_34              (io), W6 IO_L15P_T2_DQS_34              (io), W7 IO_L19N_T3_VREF_34             (io), W9 IO_L24P_T3_34                  (io), Y1 IO_L5N_T0_34                   (io), Y2 IO_L4N_T0_34                   (io), Y3 IO_L9P_T1_DQS_34               (io), Y4 IO_L11P_T1_SRCC_34             (io), Y6 IO_L18P_T2_34                  (io), Y7 IO_L23N_T3_34                  (io), Y8 IO_L23P_T3_34                  (io), Y9 IO_L24N_T3_34                  (io)
part C pins: A4 MGTPTXN0_216                   (io), A6 MGTPTXN2_216                   (io), A8 MGTPRXN0_216                   (io), A10 MGTPRXN2_216                   (io), B4 MGTPTXP0_216                   (io), B6 MGTPTXP2_216                   (io), B8 MGTPRXP0_216                   (io), B10 MGTPRXP2_216                   (io), C5 MGTPTXN1_216                   (io), C7 MGTPTXN3_216                   (io), C9 MGTPRXN3_216                   (io), C11 MGTPRXN1_216                   (io), D5 MGTPTXP1_216                   (io), D7 MGTPTXP3_216                   (io), D9 MGTPRXP3_216                   (io), D11 MGTPRXP1_216                   (io), E6 MGTREFCLK0N_216                (io), E10 MGTREFCLK1N_216                (io), F6 MGTREFCLK0P_216                (io), F8 MGTRREF_216                    (io), F10 MGTREFCLK1P_216                (io)
part D pins: G13 IO_L1N_T0_AD0N_15 (io), G15 IO_L2P_T0_AD8P_15 (io), G16 IO_L2N_T0_AD8N_15 (io), G17 IO_L4P_T0_15 (io), G18 IO_L4N_T0_15 (io), G20 IO_L8N_T1_AD10N_15 (io), H13 IO_L1P_T0_AD0P_15 (io), H14 IO_L3N_T0_DQS_AD1N_15 (io), H15 IO_L5N_T0_AD9N_15 (io), H17 IO_L6P_T0_15 (io), H18 IO_L6N_T0_VREF_15 (io), H19 IO_L12N_T1_MRCC_15 (io), H20 IO_L8P_T1_AD10P_15 (io), H22 IO_L7N_T1_AD2N_15 (io), J14 IO_L3P_T0_DQS_AD1P_15 (io), J15 IO_L5P_T0_AD9P_15 (io), J16 IO_0_15 (io), J17 IO_L21N_T3_DQS_A18_15 (io), J19 IO_L12P_T1_MRCC_15 (io), J20 IO_L11P_T1_SRCC_15 (io), J21 IO_L11N_T1_SRCC_15 (io), J22 IO_L7P_T1_AD2P_15 (io), K13 IO_L19P_T3_A22_15 (io), K14 IO_L19N_T3_A21_VREF_15 (io), K16 IO_L23N_T3_FWE_B_15 (io), K17 IO_L21P_T3_DQS_15 (io), K18 IO_L13P_T2_MRCC_15 (io), K19 IO_L13N_T2_MRCC_15 (io), K21 IO_L9P_T1_DQS_AD3P_15 (io), K22 IO_L9N_T1_DQS_AD3N_15 (io), L13 IO_L20N_T3_A19_15 (io), L14 IO_L22P_T3_A17_15 (io), L15 IO_L22N_T3_A16_15 (io), L16 IO_L23P_T3_FOE_B_15 (io), L18 IO_L16N_T2_A27_15 (io), L19 IO_L14P_T2_SRCC_15 (io), L20 IO_L14N_T2_SRCC_15 (io), L21 IO_L10N_T1_AD11N_15 (io), M13 IO_L20P_T3_A20_15 (io), M15 IO_L24P_T3_RS1_15 (io), M16 IO_L24N_T3_RS0_15 (io), M17 IO_25_15 (io), M18 IO_L16P_T2_A28_15 (io), M20 IO_L18N_T2_A23_15 (io), M21 IO_L10P_T1_AD11P_15 (io), M22 IO_L15N_T2_DQS_ADV_B_15 (io), N18 IO_L17P_T2_A26_15 (io), N19 IO_L17N_T2_A25_15 (io), N20 IO_L18P_T2_A24_15 (io), N22 IO_L15P_T2_DQS_15 (io)
part E pins: AA18 IO_L17P_T2_A14_D30_14         , AA19 IO_L15P_T2_DQS_RDWR_B_14      , AA20 IO_L8P_T1_D11_14              , AA21 IO_L8N_T1_D12_14              , AB18 IO_L17N_T2_A13_D29_14         , AB20 IO_L15N_T2_DQS_DOUT_CSO_B_14  , AB21 IO_L10P_T1_D14_14             , AB22 IO_L10N_T1_D15_14             , N13 IO_L23P_T3_A03_D19_14         , N14 IO_L23N_T3_A02_D18_14         , N15 IO_25_14                      , N17 IO_L21P_T3_DQS_14             , P14 IO_L19P_T3_A10_D26_14         , P15 IO_L22P_T3_A05_D21_14         , P16 IO_L24P_T3_A01_D17_14         , P17 IO_L21N_T3_DQS_A06_D22_14     , P19 IO_L5P_T0_D06_14              , P20 IO_0_14                       , P21 IO_L2P_T0_D02_14              , P22 IO_L1P_T0_D00_MOSI_14         , R14 IO_L19N_T3_A09_D25_VREF_14    , R16 IO_L22N_T3_A04_D20_14         , R17 IO_L24N_T3_A00_D16_14         , R18 IO_L20P_T3_A08_D24_14         , R19 IO_L5N_T0_D07_14              , R21 IO_L2N_T0_D03_14              , R22 IO_L1N_T0_D01_DIN_14          , T18 IO_L20N_T3_A07_D23_14         , T19 IO_L6P_T0_FCS_B_14            , T20 IO_L6N_T0_D08_VREF_14         , T21 IO_L4P_T0_D04_14              , U17 IO_L18P_T2_A12_D28_14         , U18 IO_L18N_T2_A11_D27_14         , U20 IO_L11P_T1_SRCC_14            , U21 IO_L4N_T0_D05_14              , U22 IO_L3P_T0_DQS_PUDC_B_14       , V17 IO_L16P_T2_CSI_B_14           , V18 IO_L14P_T2_SRCC_14            , V19 IO_L14N_T2_SRCC_14            , V20 IO_L11N_T1_SRCC_14            , V22 IO_L3N_T0_DQS_EMCCLK_14       , W17 IO_L16N_T2_A15_D31_14         , W19 IO_L12P_T1_MRCC_14            , W20 IO_L12N_T1_MRCC_14            , W21 IO_L7P_T1_D09_14              , W22 IO_L7N_T1_D10_14              , Y18 IO_L13P_T2_MRCC_14            , Y19 IO_L13N_T2_MRCC_14            , Y21 IO_L9P_T1_DQS_14              , Y22 IO_L9N_T1_DQS_D13_14          
part F pins: A13 IO_L10P_T1_16 (io), A14 IO_L10N_T1_16 (io), A15 IO_L9P_T1_DQS_16 (io), A16 IO_L9N_T1_DQS_16 (io), A18 IO_L17P_T2_16 (io), A19 IO_L17N_T2_16 (io), A19 IO_L18P_T2_16 (io), A20 IO_L16N_T2_16 (io), A21 IO_L21N_T3_DQS_16 (io), B13 IO_L8N_T1_16 (io), B15 IO_L7P_T1_16 (io), B16 IO_L7N_T1_16 (io), B17 IO_L11P_T1_SRCC_16 (io), B18 IO_L11N_T1_SRCC_16 (io), B20 IO_L16P_T2_16 (io), B21 IO_L21P_T3_DQS_16 (io), B22 IO_L20N_T3_16 (io), C13 IO_L8P_T1_16 (io), C14 IO_L3P_T0_DQS_16 (io), C15 IO_L3N_T0_DQS_16 (io), C17 IO_L12N_T1_MRCC_16 (io), C18 IO_L13P_T2_MRCC_16 (io), C19 IO_L13N_T2_MRCC_16 (io), C20 IO_L19N_T3_VREF_16 (io), C22 IO_L20P_T3_16 (io), D14 IO_L6P_T0_16 (io), D15 IO_L6N_T0_VREF_16 (io), D16 IO_L5N_T0_16 (io), D17 IO_L12P_T1_MRCC_16 (io), D19 IO_L14N_T2_SRCC_16 (io), D20 IO_L19P_T3_16 (io), D21 IO_L23N_T3_16 (io), D22 IO_L22N_T3_16 (io), E13 IO_L4P_T0_16 (io), E14 IO_L4N_T0_16 (io), E16 IO_L5P_T0_16 (io), E17 IO_L2N_T0_16 (io), E18 IO_L15N_T2_DQS_16 (io), E19 IO_L14P_T2_SRCC_16 (io), E21 IO_L23P_T3_16 (io), E22 IO_L22P_T3_16 (io), F13 IO_L1P_T0_16 (io), F14 IO_L1N_T0_16 (io), F15 IO_0_16 (io), F16 IO_L2P_T0_16 (io), F18 IO_L15P_T2_DQS_16 (io), F20 IO_L18N_T2_16 (io), F21 IO_25_16 (io), G21 IO_L24P_T3_16 (io), G22 IO_L24N_T3_16 (io)
part G pins: E12 VCCBATT_0 (io), G11 DONE_0 (io), L9 VREFN_0 (io), L10 VP_0 (io), L12 CCLK_0 (io), M9 VN_0 (io), M10 VREFP_0 (io), N9 DXN_0 (io), N10 DXP_0 (io), N12 PROGRAM_B_0 (io), R13 TDI_0 (io), T13 TMS_0 (io), U8 CFGBVS_0 (io), U9 M2_0 (io), U10 M1_0 (io), U11 M0_0 (io), U12 INIT_B_0 (io), U13 TDO_0 (io), V12 TCK_0 (io)
part H pins: A17 VCCO_16, AA7 VCCO_34, AA17 VCCO_13, AB4 VCCO_34, AB14 VCCO_13, B5 MGTAVTT, B7 MGTAVTT, B9 MGTAVTT, B11 MGTAVTT, B14 VCCO_16, C1 VCCO_35, C4 MGTAVTT, C8 MGTAVTT, C21 VCCO_16, D6 MGTAVCC, D10 MGTAVCC, D18 VCCO_16, E8 MGTAVCC, E15 VCCO_16, F2 VCCO_35, F7 MGTAVCC, F9 MGTAVCC, F12 VCCO_0, F22 VCCO_16, G19 VCCO_15, H6 VCCO_35, H8 VCCINT, H10 VCCINT, H12 VCCAUX, H16 VCCO_15, J3 VCCO_35, J7 VCCINT, J9 VCCINT, J11 VCCBRAM, J13 VCCO_15, K8 VCCINT, K10 VCCADC_0, K12 VCCAUX, K20 VCCO_15, L7 VCCINT, L11 VCCBRAM, L17 VCCO_15, M4 VCCO_35, M8 VCCINT, M12 VCCAUX, M14 VCCO_14, N1 VCCO_35, N7 VCCINT, N11 VCCBRAM, N21 VCCO_15, P8 VCCINT, P10 VCCINT, P12 VCCAUX, P18 VCCO_14, R5 VCCO_34, R7 VCCINT, R9 VCCINT, R11 VCCAUX, R15 VCCO_14, T2 VCCO_34, T8 VCCINT, T10 VCCINT, T12 VCCO_0, T22 VCCO_14, U19 VCCO_14, V6 VCCO_34, V16 VCCO_13, W3 VCCO_34, W13 VCCO_13, Y10 VCCO_13, Y20 VCCO_14
part I pins: A2 GND, A3 GND, A5 GND, A7 GND, A9 GND, A11 GND, A12 GND, A22 GND, AA2 GND, AA12 GND, AA22 GND, AB9 GND, AB19 GND, B3 GND, B12 GND, B19 GND, C3 GND, C6 GND, C10 GND, C12 GND, C16 GND, D3 GND, D4 GND, D8 GND, D12 GND, D13 GND, E4 GND, E5 GND, E7 GND, E9 GND, E11 GND, E20 GND, F5 GND, F11 GND, F17 GND, G5 GND, G6 GND, G7 GND, G8 GND, G9 GND, G10 GND, G12 GND, G14 GND, H1 GND, H7 GND, H9 GND, H11 GND, H21 GND, J8 GND, J10 GND, J12 GND, J18 GND, K5 GND, K7 GND, K9 GNDADC_0, K11 GND, K15 GND, L2 GND, L8 GND, L22 GND, M7 GND, M11 GND, M19 GND, N6 GND, N8 GND, N16 GND, P3 GND, P7 GND, P9 GND, P11 GND, P13 GND, R8 GND, R10 GND, R12 GND, R20 GND, T7 GND, T9 GND, T11 GND, T17 GND, U4 GND, U14 GND, V1 GND, V11 GND, V21 GND, W8 GND, W18 GND, Y5 GND, Y15 GND
part A text: BANK 35
part B text: BANK 34; ADDRESS; DATA; CLK; BANKS; STROBE; CMD/CTRL
part C text: BANK 216
part D text: BANK 15
part E text: BANK 14
part F text: BANK 16
part G text: CONFIG; JTAG; SPI SCK; CONFIG MODE; self init; chip reset; volt standard IO banks
part H text: POWER